# Altium schematic symbol library spacemonochrome-WR_TBL.SchLib: 1696 symbols (part 8 of 28)
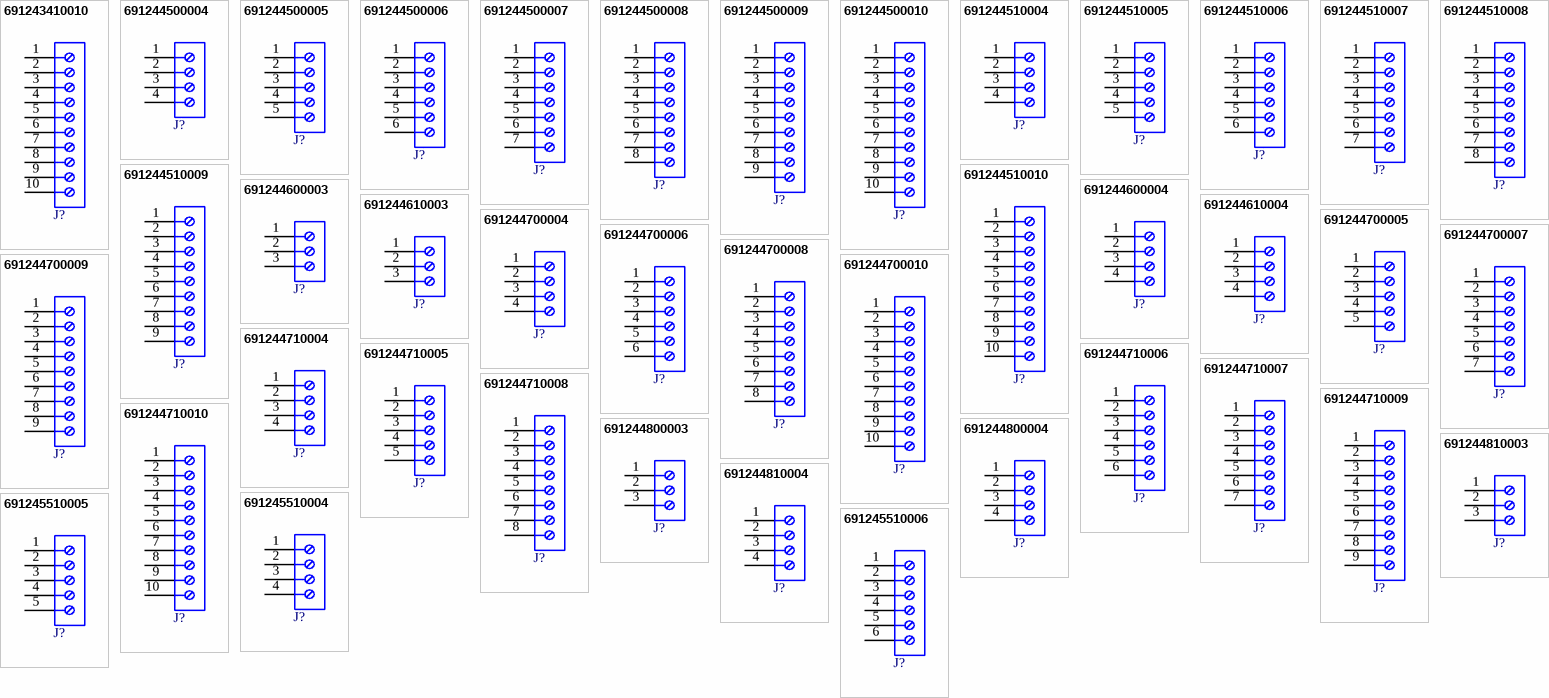
[diagram p49: symbols 691243410010 to 691245510006]

## 691243410010
designator J?  (value not drawn)
WR-TBL Series 2434 Horizontal Entry Modular, THT, pitch 7.62mm, 10p; Manufacturer: Wurth Elektronik; Modularity: No; Rated Current: 10A; Working Voltage: 300V; ComponentLink1Description: Website Link; ComponentLink1URL: https://www.we-online.com/redexpert/article/691243410010?ad; ComponentLink2Description: Datasheet Link; ComponentLink2URL: https://www.we-online.com/redexpert/spec/691243410010?ad; Manufacturer Part Number: 691243410010; Category: Terminal Blocks; Match Code: WR-TBL; Mount: Through Hole; Operating Temperature Max: 120°C; Operating Temperature Min: -30°C; Packaging: Box; Application: Rising Cage Clamp; Number of Pins: 10; Number of Rows: 1; Orientation: Horizontal; Pitch: 7.62mm
footprint 691243410010
pins: 1, 2, 3, 4, 5, 6, 7, 8, 9, 10

## 691244500004
designator J?  (value not drawn)
WR-TBL Series 2445 Vertical Entry Modular, THT, pitch 5.08mm, 4p; Manufacturer: Wurth Elektronik; Modularity: Yes; Rated Current: 16A; Working Voltage: 300V; ComponentLink1Description: Website Link; ComponentLink1URL: https://www.we-online.com/redexpert/article/691244500004?ad; ComponentLink2Description: Datasheet Link; ComponentLink2URL: https://www.we-online.com/redexpert/spec/691244500004?ad; Manufacturer Part Number: 691244500004; Category: Terminal Blocks; Match Code: WR-TBL; Mount: Through Hole; Operating Temperature Max: 120°C; Operating Temperature Min: -30°C; Packaging: Box; Application: Rising Cage Clamp; Number of Pins: 4; Number of Rows: 1; Orientation: Vertical; Pitch: 5.08mm
footprint 691244500004
pins: 1, 2, 3, 4

## 691244500005
designator J?  (value not drawn)
WR-TBL Series 2445 Vertical Entry Modular, THT, pitch 5.08mm, 5p; Manufacturer: Wurth Elektronik; Modularity: Yes; Rated Current: 16A; Working Voltage: 300V; ComponentLink1Description: Website Link; ComponentLink1URL: https://www.we-online.com/redexpert/article/691244500005?ad; ComponentLink2Description: Datasheet Link; ComponentLink2URL: https://www.we-online.com/redexpert/spec/691244500005?ad; Manufacturer Part Number: 691244500005; Category: Terminal Blocks; Match Code: WR-TBL; Mount: Through Hole; Operating Temperature Max: 120°C; Operating Temperature Min: -30°C; Packaging: Box; Application: Rising Cage Clamp; Number of Pins: 5; Number of Rows: 1; Orientation: Vertical; Pitch: 5.08mm
footprint 691244500005
pins: 1, 2, 3, 4, 5

## 691244500006
designator J?  (value not drawn)
WR-TBL Series 2445 Vertical Entry Modular, THT, pitch 5.08mm, 6p; Manufacturer: Wurth Elektronik; Modularity: Yes; Rated Current: 16A; Working Voltage: 300V; ComponentLink1Description: Website Link; ComponentLink1URL: https://www.we-online.com/redexpert/article/691244500006?ad; ComponentLink2Description: Datasheet Link; ComponentLink2URL: https://www.we-online.com/redexpert/spec/691244500006?ad; Manufacturer Part Number: 691244500006; Category: Terminal Blocks; Match Code: WR-TBL; Mount: Through Hole; Operating Temperature Max: 120°C; Operating Temperature Min: -30°C; Packaging: Box; Application: Rising Cage Clamp; Number of Pins: 6; Number of Rows: 1; Orientation: Vertical; Pitch: 5.08mm
footprint 691244500006
pins: 1, 2, 3, 4, 5, 6

## 691244500007
designator J?  (value not drawn)
WR-TBL Series 2445 Vertical Entry Modular, THT, pitch 5.08mm, 7p; Manufacturer: Wurth Elektronik; Modularity: Yes; Rated Current: 16A; Working Voltage: 300V; ComponentLink1Description: Website Link; ComponentLink1URL: https://www.we-online.com/redexpert/article/691244500007?ad; ComponentLink2Description: Datasheet Link; ComponentLink2URL: https://www.we-online.com/redexpert/spec/691244500007?ad; Manufacturer Part Number: 691244500007; Category: Terminal Blocks; Match Code: WR-TBL; Mount: Through Hole; Operating Temperature Max: 120°C; Operating Temperature Min: -30°C; Packaging: Box; Application: Rising Cage Clamp; Number of Pins: 7; Number of Rows: 1; Orientation: Vertical; Pitch: 5.08mm
footprint 691244500007
pins: 1, 2, 3, 4, 5, 6, 7

## 691244500008
designator J?  (value not drawn)
WR-TBL Series 2445 Vertical Entry Modular, THT, pitch 5.08mm, 8p; Manufacturer: Wurth Elektronik; Modularity: Yes; Rated Current: 16A; Working Voltage: 300V; ComponentLink1Description: Website Link; ComponentLink1URL: https://www.we-online.com/redexpert/article/691244500008?ad; ComponentLink2Description: Datasheet Link; ComponentLink2URL: https://www.we-online.com/redexpert/spec/691244500008?ad; Manufacturer Part Number: 691244500008; Category: Terminal Blocks; Match Code: WR-TBL; Mount: Through Hole; Operating Temperature Max: 120°C; Operating Temperature Min: -30°C; Packaging: Box; Application: Rising Cage Clamp; Number of Pins: 8; Number of Rows: 1; Orientation: Vertical; Pitch: 5.08mm
footprint 691244500008
pins: 1, 2, 3, 4, 5, 6, 7, 8

## 691244500009
designator J?  (value not drawn)
WR-TBL Series 2445 Vertical Entry Modular, THT, pitch 5.08mm, 9p; Manufacturer: Wurth Elektronik; Modularity: Yes; Rated Current: 16A; Working Voltage: 300V; ComponentLink1Description: Website Link; ComponentLink1URL: https://www.we-online.com/redexpert/article/691244500009?ad; ComponentLink2Description: Datasheet Link; ComponentLink2URL: https://www.we-online.com/redexpert/spec/691244500009?ad; Manufacturer Part Number: 691244500009; Category: Terminal Blocks; Match Code: WR-TBL; Mount: Through Hole; Operating Temperature Max: 120°C; Operating Temperature Min: -30°C; Packaging: Box; Application: Rising Cage Clamp; Number of Pins: 9; Number of Rows: 1; Orientation: Vertical; Pitch: 5.08mm
footprint 691244500009
pins: 1, 2, 3, 4, 5, 6, 7, 8, 9

## 691244500010
designator J?  (value not drawn)
WR-TBL Series 2445 Vertical Entry Modular, THT, pitch 5.08mm, 10p; Manufacturer: Wurth Elektronik; Modularity: Yes; Rated Current: 16A; Working Voltage: 300V; ComponentLink1Description: Website Link; ComponentLink1URL: https://www.we-online.com/redexpert/article/691244500010?ad; ComponentLink2Description: Datasheet Link; ComponentLink2URL: https://www.we-online.com/redexpert/spec/691244500010?ad; Manufacturer Part Number: 691244500010; Category: Terminal Blocks; Match Code: WR-TBL; Mount: Through Hole; Operating Temperature Max: 120°C; Operating Temperature Min: -30°C; Packaging: Box; Application: Rising Cage Clamp; Number of Pins: 10; Number of Rows: 1; Orientation: Vertical; Pitch: 5.08mm
footprint 691244500010
pins: 1, 2, 3, 4, 5, 6, 7, 8, 9, 10

## 691244510004
designator J?  (value not drawn)
WR-TBL Series 2445 Horizontal Entry Modular, THT, pitch 5.08mm, 4p; Manufacturer: Wurth Elektronik; Modularity: No; Rated Current: 16A; Working Voltage: 300V; ComponentLink1Description: Website Link; ComponentLink1URL: https://www.we-online.com/redexpert/article/691244510004?ad; ComponentLink2Description: Datasheet Link; ComponentLink2URL: https://www.we-online.com/redexpert/spec/691244510004?ad; Manufacturer Part Number: 691244510004; Category: Terminal Blocks; Match Code: WR-TBL; Mount: Through Hole; Operating Temperature Max: 120°C; Operating Temperature Min: -30°C; Packaging: Box; Application: Rising Cage Clamp; Number of Pins: 4; Number of Rows: 1; Orientation: Horizontal; Pitch: 5.08mm
footprint 691244510004
pins: 1, 2, 3, 4

## 691244510005
designator J?  (value not drawn)
WR-TBL Series 2445 Horizontal Entry Modular, THT, pitch 5.08mm, 5p; Manufacturer: Wurth Elektronik; Modularity: No; Rated Current: 16A; Working Voltage: 300V; ComponentLink1Description: Website Link; ComponentLink1URL: https://www.we-online.com/redexpert/article/691244510005?ad; ComponentLink2Description: Datasheet Link; ComponentLink2URL: https://www.we-online.com/redexpert/spec/691244510005?ad; Manufacturer Part Number: 691244510005; Category: Terminal Blocks; Match Code: WR-TBL; Mount: Through Hole; Operating Temperature Max: 120°C; Operating Temperature Min: -30°C; Packaging: Box; Application: Rising Cage Clamp; Number of Pins: 5; Number of Rows: 1; Orientation: Horizontal; Pitch: 5.08mm
footprint 691244510005
pins: 1, 2, 3, 4, 5

## 691244510006
designator J?  (value not drawn)
WR-TBL Series 2445 Horizontal Entry Modular, THT, pitch 5.08mm, 6p; Manufacturer: Wurth Elektronik; Modularity: No; Rated Current: 16A; Working Voltage: 300V; ComponentLink1Description: Website Link; ComponentLink1URL: https://www.we-online.com/redexpert/article/691244510006?ad; ComponentLink2Description: Datasheet Link; ComponentLink2URL: https://www.we-online.com/redexpert/spec/691244510006?ad; Manufacturer Part Number: 691244510006; Category: Terminal Blocks; Match Code: WR-TBL; Mount: Through Hole; Operating Temperature Max: 120°C; Operating Temperature Min: -30°C; Packaging: Box; Application: Rising Cage Clamp; Number of Pins: 6; Number of Rows: 1; Orientation: Horizontal; Pitch: 5.08mm
footprint 691244510006
pins: 1, 2, 3, 4, 5, 6

## 691244510007
designator J?  (value not drawn)
WR-TBL Series 2445 Horizontal Entry Modular, THT, pitch 5.08mm, 7p; Manufacturer: Wurth Elektronik; Modularity: No; Rated Current: 16A; Working Voltage: 300V; ComponentLink1Description: Website Link; ComponentLink1URL: https://www.we-online.com/redexpert/article/691244510007?ad; ComponentLink2Description: Datasheet Link; ComponentLink2URL: https://www.we-online.com/redexpert/spec/691244510007?ad; Manufacturer Part Number: 691244510007; Category: Terminal Blocks; Match Code: WR-TBL; Mount: Through Hole; Operating Temperature Max: 120°C; Operating Temperature Min: -30°C; Packaging: Box; Application: Rising Cage Clamp; Number of Pins: 7; Number of Rows: 1; Orientation: Horizontal; Pitch: 5.08mm
footprint 691244510007
pins: 1, 2, 3, 4, 5, 6, 7

## 691244510008
designator J?  (value not drawn)
WR-TBL Series 2445 Horizontal Entry Modular, THT, pitch 5.08mm, 8p; Manufacturer: Wurth Elektronik; Modularity: No; Rated Current: 16A; Working Voltage: 300V; ComponentLink1Description: Website Link; ComponentLink1URL: https://www.we-online.com/redexpert/article/691244510008?ad; ComponentLink2Description: Datasheet Link; ComponentLink2URL: https://www.we-online.com/redexpert/spec/691244510008?ad; Manufacturer Part Number: 691244510008; Category: Terminal Blocks; Match Code: WR-TBL; Mount: Through Hole; Operating Temperature Max: 120°C; Operating Temperature Min: -30°C; Packaging: Box; Application: Rising Cage Clamp; Number of Pins: 8; Number of Rows: 1; Orientation: Horizontal; Pitch: 5.08mm
footprint 691244510008
pins: 1, 2, 3, 4, 5, 6, 7, 8

## 691244510009
designator J?  (value not drawn)
WR-TBL Series 2445 Horizontal Entry Modular, THT, pitch 5.08mm, 9p; Manufacturer: Wurth Elektronik; Modularity: No; Rated Current: 16A; Working Voltage: 300V; ComponentLink1Description: Website Link; ComponentLink1URL: https://www.we-online.com/redexpert/article/691244510009?ad; ComponentLink2Description: Datasheet Link; ComponentLink2URL: https://www.we-online.com/redexpert/spec/691244510009?ad; Manufacturer Part Number: 691244510009; Category: Terminal Blocks; Match Code: WR-TBL; Mount: Through Hole; Operating Temperature Max: 120°C; Operating Temperature Min: -30°C; Packaging: Box; Application: Rising Cage Clamp; Number of Pins: 9; Number of Rows: 1; Orientation: Horizontal; Pitch: 5.08mm
footprint 691244510009
pins: 1, 2, 3, 4, 5, 6, 7, 8, 9

## 691244510010
designator J?  (value not drawn)
WR-TBL Series 2445 Horizontal Entry Modular, THT, pitch 5.08mm, 10p; Manufacturer: Wurth Elektronik; Modularity: No; Rated Current: 16A; Working Voltage: 300V; ComponentLink1Description: Website Link; ComponentLink1URL: https://www.we-online.com/redexpert/article/691244510010?ad; ComponentLink2Description: Datasheet Link; ComponentLink2URL: https://www.we-online.com/redexpert/spec/691244510010?ad; Manufacturer Part Number: 691244510010; Category: Terminal Blocks; Match Code: WR-TBL; Mount: Through Hole; Operating Temperature Max: 120°C; Operating Temperature Min: -30°C; Packaging: Box; Application: Rising Cage Clamp; Number of Pins: 10; Number of Rows: 1; Orientation: Horizontal; Pitch: 5.08mm
footprint 691244510010
pins: 1, 2, 3, 4, 5, 6, 7, 8, 9, 10

## 691244600003
designator J?  (value not drawn)
WR-TBL Series 2446 Vertical Entry Modular, THT, pitch 10.16mm, 3p; Manufacturer: Wurth Elektronik; Modularity: No; Rated Current: 16A; Working Voltage: 300V; ComponentLink1Description: Website Link; ComponentLink1URL: https://www.we-online.com/redexpert/article/691244600003?ad; ComponentLink2Description: Datasheet Link; ComponentLink2URL: https://www.we-online.com/redexpert/spec/691244600003?ad; Manufacturer Part Number: 691244600003; Category: Terminal Blocks; Match Code: WR-TBL; Mount: Through Hole; Operating Temperature Max: 120°C; Operating Temperature Min: -30°C; Packaging: Box; Application: Rising Cage Clamp; Number of Pins: 3; Number of Rows: 1; Orientation: Vertical; Pitch: 10.16mm
footprint 691244600003
pins: 1, 2, 3

## 691244600004
designator J?  (value not drawn)
WR-TBL Series 2446 Vertical Entry Modular, THT, pitch 10.16mm, 4p; Manufacturer: Wurth Elektronik; Modularity: No; Rated Current: 16A; Working Voltage: 300V; ComponentLink1Description: Website Link; ComponentLink1URL: https://www.we-online.com/redexpert/article/691244600004?ad; ComponentLink2Description: Datasheet Link; ComponentLink2URL: https://www.we-online.com/redexpert/spec/691244600004?ad; Manufacturer Part Number: 691244600004; Category: Terminal Blocks; Match Code: WR-TBL; Mount: Through Hole; Operating Temperature Max: 120°C; Operating Temperature Min: -30°C; Packaging: Box; Application: Rising Cage Clamp; Number of Pins: 4; Number of Rows: 1; Orientation: Vertical; Pitch: 10.16mm
footprint 691244600004
pins: 1, 2, 3, 4

## 691244610003
designator J?  (value not drawn)
WR-TBL Series 2446 Horizontal Entry Modular, THT, pitch 10.16mm, 3p; Manufacturer: Wurth Elektronik; Modularity: No; Rated Current: 16A; Working Voltage: 300V; ComponentLink1Description: Website Link; ComponentLink1URL: https://www.we-online.com/redexpert/article/691244610003?ad; ComponentLink2Description: Datasheet Link; ComponentLink2URL: https://www.we-online.com/redexpert/spec/691244610003?ad; Manufacturer Part Number: 691244610003; Category: Terminal Blocks; Match Code: WR-TBL; Mount: Through Hole; Operating Temperature Max: 120°C; Operating Temperature Min: -30°C; Packaging: Box; Application: Rising Cage Clamp; Number of Pins: 3; Number of Rows: 1; Orientation: Horizontal; Pitch: 10.16mm
footprint 691244610003
pins: 1, 2, 3

## 691244610004
designator J?  (value not drawn)
WR-TBL Series 2446 Horizontal Entry Modular, THT, pitch 10.16mm, 4p; Manufacturer: Wurth Elektronik; Modularity: No; Rated Current: 16A; Working Voltage: 300V; ComponentLink1Description: Website Link; ComponentLink1URL: https://www.we-online.com/redexpert/article/691244610004?ad; ComponentLink2Description: Datasheet Link; ComponentLink2URL: https://www.we-online.com/redexpert/spec/691244610004?ad; Manufacturer Part Number: 691244610004; Category: Terminal Blocks; Match Code: WR-TBL; Mount: Through Hole; Operating Temperature Max: 120°C; Operating Temperature Min: -30°C; Packaging: Box; Application: Rising Cage Clamp; Number of Pins: 4; Number of Rows: 1; Orientation: Horizontal; Pitch: 10.16mm
footprint 691244610004
pins: 1, 2, 3, 4

## 691244700004
designator J?  (value not drawn)
WR-TBL Series 2447 Vertical Entry Modular, THT, pitch 5mm, 4p; Manufacturer: Wurth Elektronik; Modularity: Yes; Rated Current: 16A; Working Voltage: 300V; ComponentLink1Description: Website Link; ComponentLink1URL: https://www.we-online.com/redexpert/article/691244700004?ad; ComponentLink2Description: Datasheet Link; ComponentLink2URL: https://www.we-online.com/redexpert/spec/691244700004?ad; Manufacturer Part Number: 691244700004; Category: Terminal Blocks; Match Code: WR-TBL; Mount: Through Hole; Operating Temperature Max: 120°C; Operating Temperature Min: -30°C; Packaging: Box; Application: Rising Cage Clamp; Number of Pins: 4; Number of Rows: 1; Orientation: Vertical; Pitch: 5mm
footprint 691244700004
pins: 1, 2, 3, 4

## 691244700005
designator J?  (value not drawn)
WR-TBL Series 2447 Vertical Entry Modular, THT, pitch 5mm, 5p; Manufacturer: Wurth Elektronik; Modularity: Yes; Rated Current: 16A; Working Voltage: 300V; ComponentLink1Description: Website Link; ComponentLink1URL: https://www.we-online.com/redexpert/article/691244700005?ad; ComponentLink2Description: Datasheet Link; ComponentLink2URL: https://www.we-online.com/redexpert/spec/691244700005?ad; Manufacturer Part Number: 691244700005; Category: Terminal Blocks; Match Code: WR-TBL; Mount: Through Hole; Operating Temperature Max: 120°C; Operating Temperature Min: -30°C; Packaging: Box; Application: Rising Cage Clamp; Number of Pins: 5; Number of Rows: 1; Orientation: Vertical; Pitch: 5mm
footprint 691244700005
pins: 1, 2, 3, 4, 5

## 691244700006
designator J?  (value not drawn)
WR-TBL Series 2447 Vertical Entry Modular, THT, pitch 5mm, 6p; Manufacturer: Wurth Elektronik; Modularity: Yes; Rated Current: 16A; Working Voltage: 300V; ComponentLink1Description: Website Link; ComponentLink1URL: https://www.we-online.com/redexpert/article/691244700006?ad; ComponentLink2Description: Datasheet Link; ComponentLink2URL: https://www.we-online.com/redexpert/spec/691244700006?ad; Manufacturer Part Number: 691244700006; Category: Terminal Blocks; Match Code: WR-TBL; Mount: Through Hole; Operating Temperature Max: 120°C; Operating Temperature Min: -30°C; Packaging: Box; Application: Rising Cage Clamp; Number of Pins: 6; Number of Rows: 1; Orientation: Vertical; Pitch: 5mm
footprint 691244700006
pins: 1, 2, 3, 4, 5, 6

## 691244700007
designator J?  (value not drawn)
WR-TBL Series 2447 Vertical Entry Modular, THT, pitch 5mm, 7p; Manufacturer: Wurth Elektronik; Modularity: Yes; Rated Current: 16A; Working Voltage: 300V; ComponentLink1Description: Website Link; ComponentLink1URL: https://www.we-online.com/redexpert/article/691244700007?ad; ComponentLink2Description: Datasheet Link; ComponentLink2URL: https://www.we-online.com/redexpert/spec/691244700007?ad; Manufacturer Part Number: 691244700007; Category: Terminal Blocks; Match Code: WR-TBL; Mount: Through Hole; Operating Temperature Max: 120°C; Operating Temperature Min: -30°C; Packaging: Box; Application: Rising Cage Clamp; Number of Pins: 7; Number of Rows: 1; Orientation: Vertical; Pitch: 5mm
footprint 691244700007
pins: 1, 2, 3, 4, 5, 6, 7

## 691244700008
designator J?  (value not drawn)
WR-TBL Series 2447 Vertical Entry Modular, THT, pitch 5mm, 8p; Manufacturer: Wurth Elektronik; Modularity: Yes; Rated Current: 16A; Working Voltage: 300V; ComponentLink1Description: Website Link; ComponentLink1URL: https://www.we-online.com/redexpert/article/691244700008?ad; ComponentLink2Description: Datasheet Link; ComponentLink2URL: https://www.we-online.com/redexpert/spec/691244700008?ad; Manufacturer Part Number: 691244700008; Category: Terminal Blocks; Match Code: WR-TBL; Mount: Through Hole; Operating Temperature Max: 120°C; Operating Temperature Min: -30°C; Packaging: Box; Application: Rising Cage Clamp; Number of Pins: 8; Number of Rows: 1; Orientation: Vertical; Pitch: 5mm
footprint 691244700008
pins: 1, 2, 3, 4, 5, 6, 7, 8

## 691244700009
designator J?  (value not drawn)
WR-TBL Series 2447 Vertical Entry Modular, THT, pitch 5mm, 9p; Manufacturer: Wurth Elektronik; Modularity: Yes; Rated Current: 16A; Working Voltage: 300V; ComponentLink1Description: Website Link; ComponentLink1URL: https://www.we-online.com/redexpert/article/691244700009?ad; ComponentLink2Description: Datasheet Link; ComponentLink2URL: https://www.we-online.com/redexpert/spec/691244700009?ad; Manufacturer Part Number: 691244700009; Category: Terminal Blocks; Match Code: WR-TBL; Mount: Through Hole; Operating Temperature Max: 120°C; Operating Temperature Min: -30°C; Packaging: Box; Application: Rising Cage Clamp; Number of Pins: 9; Number of Rows: 1; Orientation: Vertical; Pitch: 5mm
footprint 691244700009
pins: 1, 2, 3, 4, 5, 6, 7, 8, 9

## 691244700010
designator J?  (value not drawn)
WR-TBL Series 2447 Vertical Entry Modular, THT, pitch 5mm, 10p; Manufacturer: Wurth Elektronik; Modularity: Yes; Rated Current: 16A; Working Voltage: 300V; ComponentLink1Description: Website Link; ComponentLink1URL: https://www.we-online.com/redexpert/article/691244700010?ad; ComponentLink2Description: Datasheet Link; ComponentLink2URL: https://www.we-online.com/redexpert/spec/691244700010?ad; Manufacturer Part Number: 691244700010; Category: Terminal Blocks; Match Code: WR-TBL; Mount: Through Hole; Operating Temperature Max: 120°C; Operating Temperature Min: -30°C; Packaging: Box; Application: Rising Cage Clamp; Number of Pins: 10; Number of Rows: 1; Orientation: Vertical; Pitch: 5mm
footprint 691244700010
pins: 1, 2, 3, 4, 5, 6, 7, 8, 9, 10

## 691244710004
designator J?  (value not drawn)
WR-TBL Series 2447 Horizontal Entry Modular, THT, pitch 5mm, 4p; Manufacturer: Wurth Elektronik; Modularity: Yes; Rated Current: 16A; Working Voltage: 300V; ComponentLink1Description: Website Link; ComponentLink1URL: https://www.we-online.com/redexpert/article/691244710004?ad; ComponentLink2Description: Datasheet Link; ComponentLink2URL: https://www.we-online.com/redexpert/spec/691244710004?ad; Manufacturer Part Number: 691244710004; Category: Terminal Blocks; Match Code: WR-TBL; Mount: Through Hole; Operating Temperature Max: 120°C; Operating Temperature Min: -30°C; Packaging: Box; Application: Rising Cage Clamp; Number of Pins: 4; Number of Rows: 1; Orientation: Horizontal; Pitch: 5mm
footprint 691244710004
pins: 1, 2, 3, 4

## 691244710005
designator J?  (value not drawn)
WR-TBL Series 2447 Horizontal Entry Modular, THT, pitch 5mm, 5p; Manufacturer: Wurth Elektronik; Modularity: Yes; Rated Current: 16A; Working Voltage: 300V; ComponentLink1Description: Website Link; ComponentLink1URL: https://www.we-online.com/redexpert/article/691244710005?ad; ComponentLink2Description: Datasheet Link; ComponentLink2URL: https://www.we-online.com/redexpert/spec/691244710005?ad; Manufacturer Part Number: 691244710005; Category: Terminal Blocks; Match Code: WR-TBL; Mount: Through Hole; Operating Temperature Max: 120°C; Operating Temperature Min: -30°C; Packaging: Box; Application: Rising Cage Clamp; Number of Pins: 5; Number of Rows: 1; Orientation: Horizontal; Pitch: 5mm
footprint 691244710005
pins: 1, 2, 3, 4, 5

## 691244710006
designator J?  (value not drawn)
WR-TBL Series 2447 Horizontal Entry Modular, THT, pitch 5mm, 6p; Manufacturer: Wurth Elektronik; Modularity: Yes; Rated Current: 16A; Working Voltage: 300V; ComponentLink1Description: Website Link; ComponentLink1URL: https://www.we-online.com/redexpert/article/691244710006?ad; ComponentLink2Description: Datasheet Link; ComponentLink2URL: https://www.we-online.com/redexpert/spec/691244710006?ad; Manufacturer Part Number: 691244710006; Category: Terminal Blocks; Match Code: WR-TBL; Mount: Through Hole; Operating Temperature Max: 120°C; Operating Temperature Min: -30°C; Packaging: Box; Application: Rising Cage Clamp; Number of Pins: 6; Number of Rows: 1; Orientation: Horizontal; Pitch: 5mm
footprint 691244710006
pins: 1, 2, 3, 4, 5, 6

## 691244710007
designator J?  (value not drawn)
WR-TBL Series 2447 Horizontal Entry Modular, THT, pitch 5mm, 7p; Manufacturer: Wurth Elektronik; Modularity: Yes; Rated Current: 16A; Working Voltage: 300V; ComponentLink1Description: Website Link; ComponentLink1URL: https://www.we-online.com/redexpert/article/691244710007?ad; ComponentLink2Description: Datasheet Link; ComponentLink2URL: https://www.we-online.com/redexpert/spec/691244710007?ad; Manufacturer Part Number: 691244710007; Category: Terminal Blocks; Match Code: WR-TBL; Mount: Through Hole; Operating Temperature Max: 120°C; Operating Temperature Min: -30°C; Packaging: Box; Application: Rising Cage Clamp; Number of Pins: 7; Number of Rows: 1; Orientation: Horizontal; Pitch: 5mm
footprint 691244710007
pins: 1, 2, 3, 4, 5, 6, 7

## 691244710008
designator J?  (value not drawn)
WR-TBL Series 2447 Horizontal Entry Modular, THT, pitch 5mm, 8p; Manufacturer: Wurth Elektronik; Modularity: Yes; Rated Current: 16A; Working Voltage: 300V; ComponentLink1Description: Website Link; ComponentLink1URL: https://www.we-online.com/redexpert/article/691244710008?ad; ComponentLink2Description: Datasheet Link; ComponentLink2URL: https://www.we-online.com/redexpert/spec/691244710008?ad; Manufacturer Part Number: 691244710008; Category: Terminal Blocks; Match Code: WR-TBL; Mount: Through Hole; Operating Temperature Max: 120°C; Operating Temperature Min: -30°C; Packaging: Box; Application: Rising Cage Clamp; Number of Pins: 8; Number of Rows: 1; Orientation: Horizontal; Pitch: 5mm
footprint 691244710008
pins: 1, 2, 3, 4, 5, 6, 7, 8

## 691244710009
designator J?  (value not drawn)
WR-TBL Series 2447 Horizontal Entry Modular, THT, pitch 5mm, 9p; Manufacturer: Wurth Elektronik; Modularity: Yes; Rated Current: 16A; Working Voltage: 300V; ComponentLink1Description: Website Link; ComponentLink1URL: https://www.we-online.com/redexpert/article/691244710009?ad; ComponentLink2Description: Datasheet Link; ComponentLink2URL: https://www.we-online.com/redexpert/spec/691244710009?ad; Manufacturer Part Number: 691244710009; Category: Terminal Blocks; Match Code: WR-TBL; Mount: Through Hole; Operating Temperature Max: 120°C; Operating Temperature Min: -30°C; Packaging: Box; Application: Rising Cage Clamp; Number of Pins: 9; Number of Rows: 1; Orientation: Horizontal; Pitch: 5mm
footprint 691244710009
pins: 1, 2, 3, 4, 5, 6, 7, 8, 9

## 691244710010
designator J?  (value not drawn)
WR-TBL Series 2447 Horizontal Entry Modular, THT, pitch 5mm, 10p; Manufacturer: Wurth Elektronik; Modularity: Yes; Rated Current: 16A; Working Voltage: 300V; ComponentLink1Description: Website Link; ComponentLink1URL: https://www.we-online.com/redexpert/article/691244710010?ad; ComponentLink2Description: Datasheet Link; ComponentLink2URL: https://www.we-online.com/redexpert/spec/691244710010?ad; Manufacturer Part Number: 691244710010; Category: Terminal Blocks; Match Code: WR-TBL; Mount: Through Hole; Operating Temperature Max: 120°C; Operating Temperature Min: -30°C; Packaging: Box; Application: Rising Cage Clamp; Number of Pins: 10; Number of Rows: 1; Orientation: Horizontal; Pitch: 5mm
footprint 691244710010
pins: 1, 2, 3, 4, 5, 6, 7, 8, 9, 10

## 691244800003
designator J?  (value not drawn)
WR-TBL Series 2448 Vertical Entry Modular, THT, pitch 10mm, 3p; Manufacturer: Wurth Elektronik; Modularity: No; Rated Current: 16A; Working Voltage: 300V; ComponentLink1Description: Website Link; ComponentLink1URL: https://www.we-online.com/redexpert/article/691244800003?ad; ComponentLink2Description: Datasheet Link; ComponentLink2URL: https://www.we-online.com/redexpert/spec/691244800003?ad; Manufacturer Part Number: 691244800003; Category: Terminal Blocks; Match Code: WR-TBL; Mount: Through Hole; Operating Temperature Max: 120°C; Operating Temperature Min: -30°C; Packaging: Box; Application: Rising Cage Clamp; Number of Pins: 3; Number of Rows: 1; Orientation: Vertical; Pitch: 10mm
footprint 691244800003
pins: 1, 2, 3

## 691244800004
designator J?  (value not drawn)
WR-TBL Series 2448 Vertical Entry Modular, THT, pitch 10mm, 4p; Manufacturer: Wurth Elektronik; Modularity: No; Rated Current: 16A; Working Voltage: 300V; ComponentLink1Description: Website Link; ComponentLink1URL: https://www.we-online.com/redexpert/article/691244800004?ad; ComponentLink2Description: Datasheet Link; ComponentLink2URL: https://www.we-online.com/redexpert/spec/691244800004?ad; Manufacturer Part Number: 691244800004; Category: Terminal Blocks; Match Code: WR-TBL; Mount: Through Hole; Operating Temperature Max: 120°C; Operating Temperature Min: -30°C; Packaging: Box; Application: Rising Cage Clamp; Number of Pins: 4; Number of Rows: 1; Orientation: Vertical; Pitch: 10mm
footprint 691244800004
pins: 1, 2, 3, 4

## 691244810003
designator J?  (value not drawn)
WR-TBL Series 2448 Horizontal Entry Modular, THT, pitch 10mm, 3p; Manufacturer: Wurth Elektronik; Modularity: No; Rated Current: 16A; Working Voltage: 300V; ComponentLink1Description: Website Link; ComponentLink1URL: https://www.we-online.com/redexpert/article/691244810003?ad; ComponentLink2Description: Datasheet Link; ComponentLink2URL: https://www.we-online.com/redexpert/spec/691244810003?ad; Manufacturer Part Number: 691244810003; Category: Terminal Blocks; Match Code: WR-TBL; Mount: Through Hole; Operating Temperature Max: 120°C; Operating Temperature Min: -30°C; Packaging: Box; Application: Rising Cage Clamp; Number of Pins: 3; Number of Rows: 1; Orientation: Horizontal; Pitch: 10mm
footprint 691244810003
pins: 1, 2, 3

## 691244810004
designator J?  (value not drawn)
WR-TBL Series 2448 Horizontal Entry Modular, THT, pitch 10mm, 4p; Manufacturer: Wurth Elektronik; Modularity: No; Rated Current: 16A; Working Voltage: 300V; ComponentLink1Description: Website Link; ComponentLink1URL: https://www.we-online.com/redexpert/article/691244810004?ad; ComponentLink2Description: Datasheet Link; ComponentLink2URL: https://www.we-online.com/redexpert/spec/691244810004?ad; Manufacturer Part Number: 691244810004; Category: Terminal Blocks; Match Code: WR-TBL; Mount: Through Hole; Operating Temperature Max: 120°C; Operating Temperature Min: -30°C; Packaging: Box; Application: Rising Cage Clamp; Number of Pins: 4; Number of Rows: 1; Orientation: Horizontal; Pitch: 10mm
footprint 691244810004
pins: 1, 2, 3, 4

## 691245510004
designator J?  (value not drawn)
WR-TBL Series 2455 Horizontal Cable Entry, THT, pitch 5.08mm, 4p; Manufacturer: Wurth Elektronik; Modularity: No; Rated Current: 16A; Working Voltage: 300V; ComponentLink1Description: Website Link; ComponentLink1URL: https://www.we-online.com/redexpert/article/691245510004?ad; ComponentLink2Description: Datasheet Link; ComponentLink2URL: https://www.we-online.com/redexpert/spec/691245510004?ad; Manufacturer Part Number: 691245510004; Category: Terminal Blocks; Match Code: WR-TBL; Mount: Through Hole; Operating Temperature Max: 120°C; Operating Temperature Min: -30°C; Packaging: Box; Application: Rising Cage Clamp; Number of Pins: 4; Number of Rows: 1; Orientation: Horizontal; Pitch: 5.08mm
footprint 691245510004
pins: 1, 2, 3, 4

## 691245510005
designator J?  (value not drawn)
WR-TBL Series 2455 Horizontal Cable Entry, THT, pitch 5.08mm, 5p; Manufacturer: Wurth Elektronik; Modularity: No; Rated Current: 16A; Working Voltage: 300V; ComponentLink1Description: Website Link; ComponentLink1URL: https://www.we-online.com/redexpert/article/691245510005?ad; ComponentLink2Description: Datasheet Link; ComponentLink2URL: https://www.we-online.com/redexpert/spec/691245510005?ad; Manufacturer Part Number: 691245510005; Category: Terminal Blocks; Match Code: WR-TBL; Mount: Through Hole; Operating Temperature Max: 120°C; Operating Temperature Min: -30°C; Packaging: Box; Application: Rising Cage Clamp; Number of Pins: 5; Number of Rows: 1; Orientation: Horizontal; Pitch: 5.08mm
footprint 691245510005
pins: 1, 2, 3, 4, 5

## 691245510006
designator J?  (value not drawn)
WR-TBL Series 2455 Horizontal Cable Entry, THT, pitch 5.08mm, 6p; Manufacturer: Wurth Elektronik; Modularity: No; Rated Current: 16A; Working Voltage: 300V; ComponentLink1Description: Website Link; ComponentLink1URL: https://www.we-online.com/redexpert/article/691245510006?ad; ComponentLink2Description: Datasheet Link; ComponentLink2URL: https://www.we-online.com/redexpert/spec/691245510006?ad; Manufacturer Part Number: 691245510006; Category: Terminal Blocks; Match Code: WR-TBL; Mount: Through Hole; Operating Temperature Max: 120°C; Operating Temperature Min: -30°C; Packaging: Box; Application: Rising Cage Clamp; Number of Pins: 6; Number of Rows: 1; Orientation: Horizontal; Pitch: 5.08mm
footprint 691245510006
pins: 1, 2, 3, 4, 5, 6

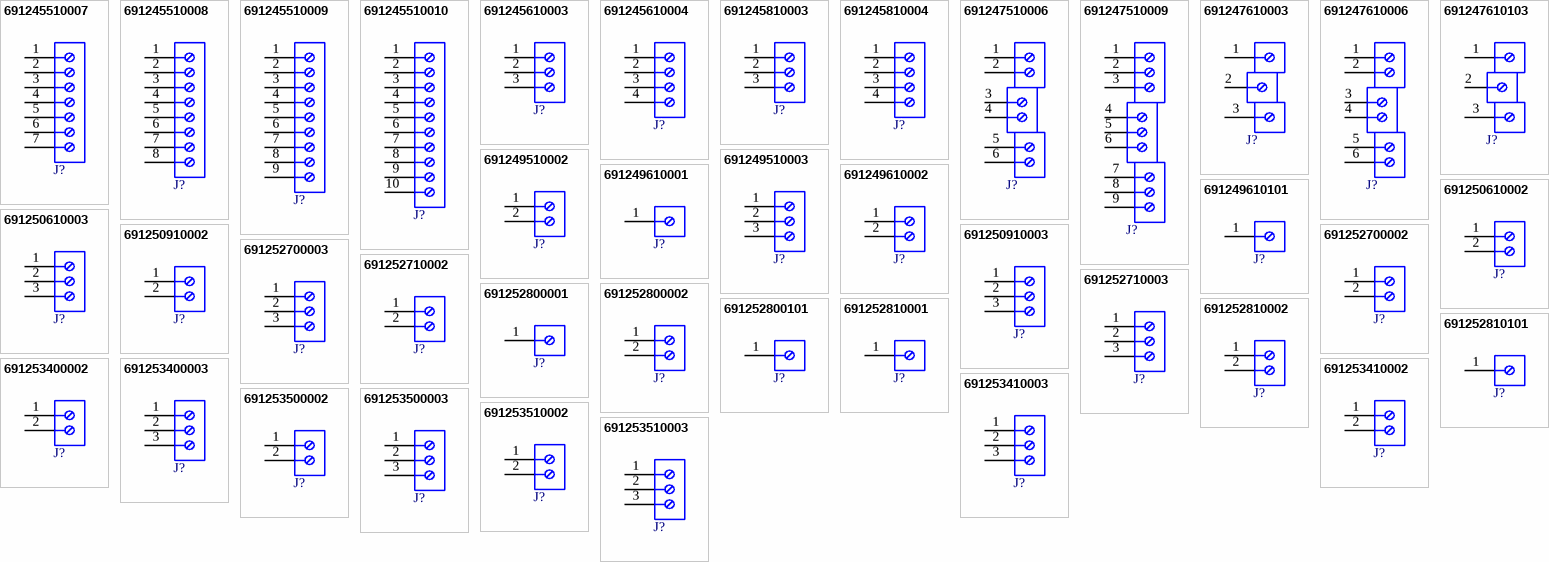
[diagram p12: symbols 691245510007 to 691253510003]

## 691245510007
designator J?  (value not drawn)
WR-TBL Series 2455 Horizontal Cable Entry, THT, pitch 5.08mm, 7p; Manufacturer: Wurth Elektronik; Modularity: No; Rated Current: 16A; Working Voltage: 300V; ComponentLink1Description: Website Link; ComponentLink1URL: https://www.we-online.com/redexpert/article/691245510007?ad; ComponentLink2Description: Datasheet Link; ComponentLink2URL: https://www.we-online.com/redexpert/spec/691245510007?ad; Manufacturer Part Number: 691245510007; Category: Terminal Blocks; Match Code: WR-TBL; Mount: Through Hole; Operating Temperature Max: 120°C; Operating Temperature Min: -30°C; Packaging: Box; Application: Rising Cage Clamp; Number of Pins: 7; Number of Rows: 1; Orientation: Horizontal; Pitch: 5.08mm
footprint 691245510007
pins: 1, 2, 3, 4, 5, 6, 7

## 691245510008
designator J?  (value not drawn)
WR-TBL Series 2455 Horizontal Cable Entry, THT, pitch 5.08mm, 8p; Manufacturer: Wurth Elektronik; Modularity: No; Rated Current: 16A; Working Voltage: 300V; ComponentLink1Description: Website Link; ComponentLink1URL: https://www.we-online.com/redexpert/article/691245510008?ad; ComponentLink2Description: Datasheet Link; ComponentLink2URL: https://www.we-online.com/redexpert/spec/691245510008?ad; Manufacturer Part Number: 691245510008; Category: Terminal Blocks; Match Code: WR-TBL; Mount: Through Hole; Operating Temperature Max: 120°C; Operating Temperature Min: -30°C; Packaging: Box; Application: Rising Cage Clamp; Number of Pins: 8; Number of Rows: 1; Orientation: Horizontal; Pitch: 5.08mm
footprint 691245510008
pins: 1, 2, 3, 4, 5, 6, 7, 8

## 691245510009
designator J?  (value not drawn)
WR-TBL Series 2455 Horizontal Cable Entry, THT, pitch 5.08mm, 9p; Manufacturer: Wurth Elektronik; Modularity: No; Rated Current: 16A; Working Voltage: 300V; ComponentLink1Description: Website Link; ComponentLink1URL: https://www.we-online.com/redexpert/article/691245510009?ad; ComponentLink2Description: Datasheet Link; ComponentLink2URL: https://www.we-online.com/redexpert/spec/691245510009?ad; Manufacturer Part Number: 691245510009; Category: Terminal Blocks; Match Code: WR-TBL; Mount: Through Hole; Operating Temperature Max: 120°C; Operating Temperature Min: -30°C; Packaging: Box; Application: Rising Cage Clamp; Number of Pins: 9; Number of Rows: 1; Orientation: Horizontal; Pitch: 5.08mm
footprint 691245510009
pins: 1, 2, 3, 4, 5, 6, 7, 8, 9

## 691245510010
designator J?  (value not drawn)
WR-TBL Series 2455 Horizontal Cable Entry, THT, pitch 5.08mm, 10p; Manufacturer: Wurth Elektronik; Modularity: No; Rated Current: 16A; Working Voltage: 300V; ComponentLink1Description: Website Link; ComponentLink1URL: https://www.we-online.com/redexpert/article/691245510010?ad; ComponentLink2Description: Datasheet Link; ComponentLink2URL: https://www.we-online.com/redexpert/spec/691245510010?ad; Manufacturer Part Number: 691245510010; Category: Terminal Blocks; Match Code: WR-TBL; Mount: Through Hole; Operating Temperature Max: 120°C; Operating Temperature Min: -30°C; Packaging: Box; Application: Rising Cage Clamp; Number of Pins: 10; Number of Rows: 1; Orientation: Horizontal; Pitch: 5.08mm
footprint 691245510010
pins: 1, 2, 3, 4, 5, 6, 7, 8, 9, 10

## 691245610003
designator J?  (value not drawn)
WR-TBL Series 2456 Horizontal Cable Entry, THT, pitch 10.16mm, 3p; Manufacturer: Wurth Elektronik; Modularity: No; Rated Current: 16A; Working Voltage: 300V; ComponentLink1Description: Website Link; ComponentLink1URL: https://www.we-online.com/redexpert/article/691245610003?ad; ComponentLink2Description: Datasheet Link; ComponentLink2URL: https://www.we-online.com/redexpert/spec/691245610003?ad; Manufacturer Part Number: 691245610003; Category: Terminal Blocks; Match Code: WR-TBL; Mount: Through Hole; Operating Temperature Max: 120°C; Operating Temperature Min: -30°C; Packaging: Box; Application: Rising Cage Clamp; Number of Pins: 3; Number of Rows: 1; Orientation: Horizontal; Pitch: 10.16mm
footprint 691245610003
pins: 1, 2, 3

## 691245610004
designator J?  (value not drawn)
WR-TBL Series 2456 Horizontal Cable Entry, THT, pitch 10.16mm, 4p; Manufacturer: Wurth Elektronik; Modularity: No; Rated Current: 16A; Working Voltage: 300V; ComponentLink1Description: Website Link; ComponentLink1URL: https://www.we-online.com/redexpert/article/691245610004?ad; ComponentLink2Description: Datasheet Link; ComponentLink2URL: https://www.we-online.com/redexpert/spec/691245610004?ad; Manufacturer Part Number: 691245610004; Category: Terminal Blocks; Match Code: WR-TBL; Mount: Through Hole; Operating Temperature Max: 120°C; Operating Temperature Min: -30°C; Packaging: Box; Application: Rising Cage Clamp; Number of Pins: 4; Number of Rows: 1; Orientation: Horizontal; Pitch: 10.16mm
footprint 691245610004
pins: 1, 2, 3, 4

## 691245810003
designator J?  (value not drawn)
WR-TBL Series 2458 Horizontal Entry, THT, pitch 10mm, 3p; Manufacturer: Wurth Elektronik; Modularity: No; Rated Current: 16A; Working Voltage: 300V; ComponentLink1Description: Website Link; ComponentLink1URL: https://www.we-online.com/redexpert/article/691245810003?ad; ComponentLink2Description: Datasheet Link; ComponentLink2URL: https://www.we-online.com/redexpert/spec/691245810003?ad; Manufacturer Part Number: 691245810003; Category: Terminal Blocks; Match Code: WR-TBL; Mount: Through Hole; Operating Temperature Max: 120°C; Operating Temperature Min: -30°C; Packaging: Box; Application: Rising Cage Clamp; Number of Pins: 3; Number of Rows: 1; Orientation: Horizontal; Pitch: 10mm
footprint 691245810003
pins: 1, 2, 3

## 691245810004
designator J?  (value not drawn)
WR-TBL Series 2458 Horizontal Entry, THT, pitch 10mm, 4p; Manufacturer: Wurth Elektronik; Modularity: No; Rated Current: 16A; Working Voltage: 300V; ComponentLink1Description: Website Link; ComponentLink1URL: https://www.we-online.com/redexpert/article/691245810004?ad; ComponentLink2Description: Datasheet Link; ComponentLink2URL: https://www.we-online.com/redexpert/spec/691245810004?ad; Manufacturer Part Number: 691245810004; Category: Terminal Blocks; Match Code: WR-TBL; Mount: Through Hole; Operating Temperature Max: 120°C; Operating Temperature Min: -30°C; Packaging: Box; Application: Rising Cage Clamp; Number of Pins: 4; Number of Rows: 1; Orientation: Horizontal; Pitch: 10mm
footprint 691245810004
pins: 1, 2, 3, 4

## 691247510006
designator J?  (value not drawn)
WR-TBL Series 2475 Tripel Level Horizontal Entry, THT, pitch 5.08mm, 6p; Manufacturer: Wurth Elektronik; Modularity: Yes; Rated Current: 20A; Working Voltage: 300V; ComponentLink1Description: Website Link; ComponentLink1URL: https://www.we-online.com/redexpert/article/691247510006?ad; ComponentLink2Description: Datasheet Link; ComponentLink2URL: https://www.we-online.com/redexpert/spec/691247510006?ad; Manufacturer Part Number: 691247510006; Category: Terminal Blocks; Match Code: WR-TBL; Mount: Through Hole; Operating Temperature Max: 120°C; Operating Temperature Min: -30°C; Packaging: Box; Application: Rising Cage Clamp; Number of Pins: 6; Number of Rows: 3; Orientation: Tripel Level Horizontal; Pitch: 5.08mm
footprint 691247510006
pins: 1, 2, 3, 4, 5, 6

## 691247510009
designator J?  (value not drawn)
WR-TBL Series 2475 Tripel Level Horizontal Entry, THT, pitch 5.08mm, 9p; Manufacturer: Wurth Elektronik; Modularity: Yes; Rated Current: 20A; Working Voltage: 300V; ComponentLink1Description: Website Link; ComponentLink1URL: https://www.we-online.com/redexpert/article/691247510009?ad; ComponentLink2Description: Datasheet Link; ComponentLink2URL: https://www.we-online.com/redexpert/spec/691247510009?ad; Manufacturer Part Number: 691247510009; Category: Terminal Blocks; Match Code: WR-TBL; Mount: Through Hole; Operating Temperature Max: 120°C; Operating Temperature Min: -30°C; Packaging: Box; Application: Rising Cage Clamp; Number of Pins: 9; Number of Rows: 3; Orientation: Tripel Level Horizontal; Pitch: 5.08mm
footprint 691247510009
pins: 1, 2, 3, 4, 5, 6, 7, 8, 9

## 691247610003
designator J?  (value not drawn)
WR-TBL Series 2476 Tripel Level Horizontal Entry, THT, pitch 10.16mm, 3p; Manufacturer: Wurth Elektronik; Modularity: Yes; Rated Current: 20A; Working Voltage: 300V; ComponentLink1Description: Website Link; ComponentLink1URL: https://www.we-online.com/redexpert/article/691247610003?ad; ComponentLink2Description: Datasheet Link; ComponentLink2URL: https://www.we-online.com/redexpert/spec/691247610003?ad; Manufacturer Part Number: 691247610003; Category: Terminal Blocks; Match Code: WR-TBL; Mount: Through Hole; Operating Temperature Max: 120°C; Operating Temperature Min: -30°C; Packaging: Box; Application: Rising Cage Clamp; Number of Pins: 3; Number of Rows: 3; Orientation: Tripel Level Horizontal; Pitch: 10.16mm
footprint 691247610003
pins: 1, 2, 3

## 691247610006
designator J?  (value not drawn)
WR-TBL Series 2476 Tripel Level Horizontal Entry, THT, pitch 10.16mm, 6p; Manufacturer: Wurth Elektronik; Modularity: Yes; Rated Current: 20A; Working Voltage: 300V; ComponentLink1Description: Website Link; ComponentLink1URL: https://www.we-online.com/redexpert/article/691247610006?ad; ComponentLink2Description: Datasheet Link; ComponentLink2URL: https://www.we-online.com/redexpert/spec/691247610006?ad; Manufacturer Part Number: 691247610006; Category: Terminal Blocks; Match Code: WR-TBL; Mount: Through Hole; Operating Temperature Max: 120°C; Operating Temperature Min: -30°C; Packaging: Box; Application: Rising Cage Clamp; Number of Pins: 6; Number of Rows: 3; Orientation: Tripel Level Horizontal; Pitch: 10.16mm
footprint 691247610006
pins: 1, 2, 3, 4, 5, 6

## 691247610103
designator J?  (value not drawn)
WR-TBL Series 2476 Tripel Level Horizontal Entry, THT, pitch 10.16mm, 3p; Manufacturer: Wurth Elektronik; Modularity: Yes; Rated Current: 20A; Working Voltage: 300V; ComponentLink1Description: Website Link; ComponentLink1URL: https://www.we-online.com/redexpert/article/691247610103?ad; ComponentLink2Description: Datasheet Link; ComponentLink2URL: https://www.we-online.com/redexpert/spec/691247610103?ad; Manufacturer Part Number: 691247610103; Category: Terminal Blocks; Match Code: WR-TBL; Mount: Through Hole; Operating Temperature Max: 120°C; Operating Temperature Min: -30°C; Packaging: Box; Application: Rising Cage Clamp; Number of Pins: 3; Number of Rows: 3; Orientation: Tripel Level Horizontal; Pitch: 10.16mm
footprint 691247610103
pins: 1, 2, 3

## 691249510002
designator J?  (value not drawn)
WR-TBL Series 2495 Horizontal Entry, THT, pitch 5.08mm, 2p; Manufacturer: Wurth Elektronik; Modularity: Yes; Rated Current: 20A; Working Voltage: 300V; ComponentLink1Description: Website Link; ComponentLink1URL: https://www.we-online.com/redexpert/article/691249510002?ad; ComponentLink2Description: Datasheet Link; ComponentLink2URL: https://www.we-online.com/redexpert/spec/691249510002?ad; Manufacturer Part Number: 691249510002; Category: Terminal Blocks; Match Code: WR-TBL; Mount: Through Hole; Operating Temperature Max: 120°C; Operating Temperature Min: -30°C; Packaging: Box; Application: Rising Cage Clamp; Number of Pins: 2; Number of Rows: 1; Orientation: Horizontal; Pitch: 5.08mm
footprint 691249510002
pins: 1, 2

## 691249510003
designator J?  (value not drawn)
WR-TBL Series 2495 Horizontal Entry, THT, pitch 5.08mm, 3p; Manufacturer: Wurth Elektronik; Modularity: Yes; Rated Current: 20A; Working Voltage: 300V; ComponentLink1Description: Website Link; ComponentLink1URL: https://www.we-online.com/redexpert/article/691249510003?ad; ComponentLink2Description: Datasheet Link; ComponentLink2URL: https://www.we-online.com/redexpert/spec/691249510003?ad; Manufacturer Part Number: 691249510003; Category: Terminal Blocks; Match Code: WR-TBL; Mount: Through Hole; Operating Temperature Max: 120°C; Operating Temperature Min: -30°C; Packaging: Box; Application: Rising Cage Clamp; Number of Pins: 3; Number of Rows: 1; Orientation: Horizontal; Pitch: 5.08mm
footprint 691249510003
pins: 1, 2, 3

## 691249610001
designator J?  (value not drawn)
WR-TBL Series 2496 Horizontal Entry, THT, pitch 10.16mm, 1p; Manufacturer: Wurth Elektronik; Modularity: Yes; Rated Current: 20A; Working Voltage: 300V; ComponentLink1Description: Website Link; ComponentLink1URL: https://www.we-online.com/redexpert/article/691249610001?ad; ComponentLink2Description: Datasheet Link; ComponentLink2URL: https://www.we-online.com/redexpert/spec/691249610001?ad; Manufacturer Part Number: 691249610001; Category: Terminal Blocks; Match Code: WR-TBL; Mount: Through Hole; Operating Temperature Max: 120°C; Operating Temperature Min: -30°C; Packaging: Box; Application: Rising Cage Clamp; Number of Pins: 1; Number of Rows: 1; Orientation: Horizontal; Pitch: 10.16mm
footprint 691249610001
pins: 1

## 691249610002
designator J?  (value not drawn)
WR-TBL Series 2496 Horizontal Entry, THT, pitch 10.16mm, 2p; Manufacturer: Wurth Elektronik; Modularity: Yes; Rated Current: 20A; Working Voltage: 300V; ComponentLink1Description: Website Link; ComponentLink1URL: https://www.we-online.com/redexpert/article/691249610002?ad; ComponentLink2Description: Datasheet Link; ComponentLink2URL: https://www.we-online.com/redexpert/spec/691249610002?ad; Manufacturer Part Number: 691249610002; Category: Terminal Blocks; Match Code: WR-TBL; Mount: Through Hole; Operating Temperature Max: 120°C; Operating Temperature Min: -30°C; Packaging: Box; Application: Rising Cage Clamp; Number of Pins: 2; Number of Rows: 1; Orientation: Horizontal; Pitch: 10.16mm
footprint 691249610002
pins: 1, 2

## 691249610101
designator J?  (value not drawn)
WR-TBL Series 2496 Horizontal Entry, THT, pitch 10.16mm, 1p; Manufacturer: Wurth Elektronik; Modularity: Yes; Rated Current: 20A; Working Voltage: 300V; ComponentLink1Description: Website Link; ComponentLink1URL: https://www.we-online.com/redexpert/article/691249610101?ad; ComponentLink2Description: Datasheet Link; ComponentLink2URL: https://www.we-online.com/redexpert/spec/691249610101?ad; Manufacturer Part Number: 691249610101; Category: Terminal Blocks; Match Code: WR-TBL; Mount: Through Hole; Operating Temperature Max: 120°C; Operating Temperature Min: -30°C; Packaging: Box; Application: Rising Cage Clamp; Number of Pins: 1; Number of Rows: 1; Orientation: Horizontal; Pitch: 10.16mm
footprint 691249610101
pins: 1

## 691250610002
designator J?  (value not drawn)
WR-TBL Series 2506 Horizontal Entry Modular, THT, pitch 6.35mm, 2p; Manufacturer: Wurth Elektronik; Modularity: Yes; Rated Current: 24A; Working Voltage: 300V; ComponentLink1Description: Website Link; ComponentLink1URL: https://www.we-online.com/redexpert/article/691250610002?ad; ComponentLink2Description: Datasheet Link; ComponentLink2URL: https://www.we-online.com/redexpert/spec/691250610002?ad; Manufacturer Part Number: 691250610002; Category: Terminal Blocks; Match Code: WR-TBL; Mount: Through Hole; Operating Temperature Max: 120°C; Operating Temperature Min: -30°C; Packaging: Box; Application: Rising Cage Clamp; Number of Pins: 2; Number of Rows: 1; Orientation: Horizontal; Pitch: 6.35mm
footprint 691250610002
pins: 1, 2

## 691250610003
designator J?  (value not drawn)
WR-TBL Series 2506 Horizontal Entry Modular, THT, pitch 6.35mm, 3p; Manufacturer: Wurth Elektronik; Modularity: Yes; Rated Current: 24A; Working Voltage: 300V; ComponentLink1Description: Website Link; ComponentLink1URL: https://www.we-online.com/redexpert/article/691250610003?ad; ComponentLink2Description: Datasheet Link; ComponentLink2URL: https://www.we-online.com/redexpert/spec/691250610003?ad; Manufacturer Part Number: 691250610003; Category: Terminal Blocks; Match Code: WR-TBL; Mount: Through Hole; Operating Temperature Max: 120°C; Operating Temperature Min: -30°C; Packaging: Box; Application: Rising Cage Clamp; Number of Pins: 3; Number of Rows: 1; Orientation: Horizontal; Pitch: 6.35mm
footprint 691250610003
pins: 1, 2, 3

## 691250910002
designator J?  (value not drawn)
WR-TBL Series 2509 Horizontal Entry Modular, THT, pitch 9.52mm, 2p; Manufacturer: Wurth Elektronik; Modularity: Yes; Rated Current: 24A; Working Voltage: 300V; ComponentLink1Description: Website Link; ComponentLink1URL: https://www.we-online.com/redexpert/article/691250910002?ad; ComponentLink2Description: Datasheet Link; ComponentLink2URL: https://www.we-online.com/redexpert/spec/691250910002?ad; Manufacturer Part Number: 691250910002; Category: Terminal Blocks; Match Code: WR-TBL; Mount: Through Hole; Operating Temperature Max: 120°C; Operating Temperature Min: -30°C; Packaging: Box; Application: Rising Cage Clamp; Number of Pins: 2; Number of Rows: 1; Orientation: Horizontal; Pitch: 9.52mm
footprint 691250910002
pins: 1, 2

## 691250910003
designator J?  (value not drawn)
WR-TBL Series 2509 Horizontal Entry Modular, THT, pitch 9.52mm, 3p; Manufacturer: Wurth Elektronik; Modularity: Yes; Rated Current: 24A; Working Voltage: 300V; ComponentLink1Description: Website Link; ComponentLink1URL: https://www.we-online.com/redexpert/article/691250910003?ad; ComponentLink2Description: Datasheet Link; ComponentLink2URL: https://www.we-online.com/redexpert/spec/691250910003?ad; Manufacturer Part Number: 691250910003; Category: Terminal Blocks; Match Code: WR-TBL; Mount: Through Hole; Operating Temperature Max: 120°C; Operating Temperature Min: -30°C; Packaging: Box; Application: Rising Cage Clamp; Number of Pins: 3; Number of Rows: 1; Orientation: Horizontal; Pitch: 9.52mm
footprint 691250910003
pins: 1, 2, 3